# EAGLE library part STM32F427VGT6 (library quad)
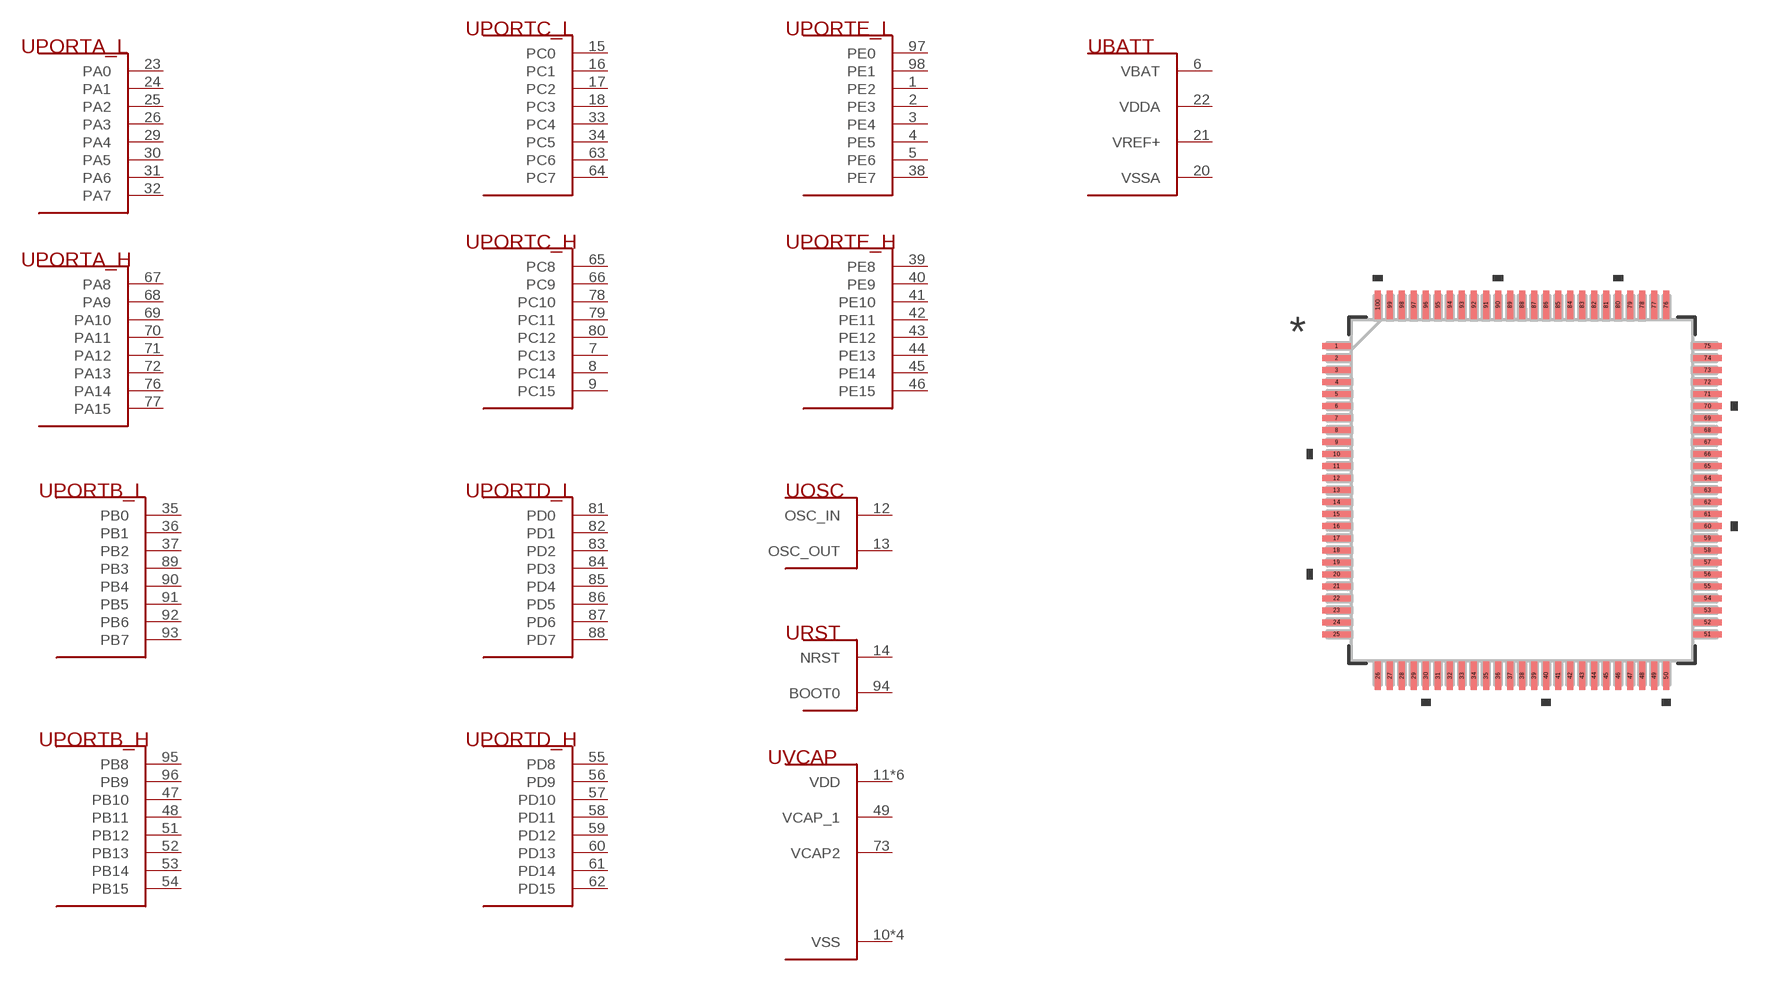
[diagram p0: symbol with the pads of LQFP-100; footprint LQFP-100]

Designator prefix -; gates PORTA_H=STM32F427_PORTA_H PORTA_L=STM32F427_PORTA_L PORTB_L=STM32F427_PORTB_L PORTB_H=STM32F427_PORTB_H PORTC_L=STM32F427_PORTC_L PORTC_H=STM32F427_PORTC_H PORTD_L=STM32F427_PORTD_L PORTD_H=STM32F427_PORTD_H PORTE_L=STM32F427_PORTE_L PORTE_H=STM32F427_PORTE_H OSC=STM32F427_OSC RST=STM32F427_RESET VCAP=STM32F427_CAPS BATT=STM32F427_BATT

## STM32F427VGT6  [LQFP-100]
1  PORTE_L:PE2  pwr
2  PORTE_L:PE3  pwr
3  PORTE_L:PE4  pwr
4  PORTE_L:PE5  pwr
5  PORTE_L:PE6  pwr
6  BATT:VBAT  pwr
7  PORTC_H:PC13  pwr
8  PORTC_H:PC14  pwr
9  PORTC_H:PC15  pwr
10  VCAP:VSS  pwr
11  VCAP:VDD  pwr
12  OSC:OSC_IN  pwr
13  OSC:OSC_OUT  pwr
14  RST:NRST  pwr
15  PORTC_L:PC0  pwr
16  PORTC_L:PC1  pwr
17  PORTC_L:PC2  pwr
18  PORTC_L:PC3  pwr
19  VCAP:VDD  pwr
20  BATT:VSSA  pwr
21  BATT:VREF+  pwr
22  BATT:VDDA  pwr
23  PORTA_L:PA0  pwr
24  PORTA_L:PA1  pwr
25  PORTA_L:PA2  pwr
26  PORTA_L:PA3  pwr
27  VCAP:VSS  pwr
28  VCAP:VDD  pwr
29  PORTA_L:PA4  pwr
30  PORTA_L:PA5  pwr
31  PORTA_L:PA6  pwr
32  PORTA_L:PA7  pwr
33  PORTC_L:PC4  pwr
34  PORTC_L:PC5  pwr
35  PORTB_L:PB0  pwr
36  PORTB_L:PB1  pwr
37  PORTB_L:PB2  pwr
38  PORTE_L:PE7  pwr
39  PORTE_H:PE8  pwr
40  PORTE_H:PE9  pwr
41  PORTE_H:PE10  pwr
42  PORTE_H:PE11  pwr
43  PORTE_H:PE12  pwr
44  PORTE_H:PE13  pwr
45  PORTE_H:PE14  pwr
46  PORTE_H:PE15  pwr
47  PORTB_H:PB10  pwr
48  PORTB_H:PB11  pwr
49  VCAP:VCAP_1  pwr
50  VCAP:VDD  pwr
51  PORTB_H:PB12  pwr
52  PORTB_H:PB13  pwr
53  PORTB_H:PB14  pwr
54  PORTB_H:PB15  pwr
55  PORTD_H:PD8  pwr
56  PORTD_H:PD9  pwr
57  PORTD_H:PD10  pwr
58  PORTD_H:PD11  pwr
59  PORTD_H:PD12  pwr
60  PORTD_H:PD13  pwr
61  PORTD_H:PD14  pwr
62  PORTD_H:PD15  pwr
63  PORTC_L:PC6  pwr
64  PORTC_L:PC7  pwr
65  PORTC_H:PC8  pwr
66  PORTC_H:PC9  pwr
67  PORTA_H:PA8  pwr
68  PORTA_H:PA9  pwr
69  PORTA_H:PA10  pwr
70  PORTA_H:PA11  pwr
71  PORTA_H:PA12  pwr
72  PORTA_H:PA13  pwr
73  VCAP:VCAP2  pwr
74  VCAP:VSS  pwr
75  VCAP:VDD  pwr
76  PORTA_H:PA14  pwr
77  PORTA_H:PA15  pwr
78  PORTC_H:PC10  pwr
79  PORTC_H:PC11  pwr
80  PORTC_H:PC12  pwr
81  PORTD_L:PD0  pwr
82  PORTD_L:PD1  pwr
83  PORTD_L:PD2  pwr
84  PORTD_L:PD3  pwr
85  PORTD_L:PD4  pwr
86  PORTD_L:PD5  pwr
87  PORTD_L:PD6  pwr
88  PORTD_L:PD7  pwr
89  PORTB_L:PB3  pwr
90  PORTB_L:PB4  pwr
91  PORTB_L:PB5  pwr
92  PORTB_L:PB6  pwr
93  PORTB_L:PB7  pwr
94  RST:BOOT0  pwr
95  PORTB_H:PB8  pwr
96  PORTB_H:PB9  pwr
97  PORTE_L:PE0  pwr
98  PORTE_L:PE1  pwr
99  VCAP:VSS  pwr
100  VCAP:VDD  pwr

## Footprint LQFP-100 (pad centres in mm)
smd 1.2 x 0.25: 1 -7.722,6; 2 -7.722,5.5; 3 -7.722,5; 4 -7.722,4.5; 5 -7.722,4; 6 -7.722,3.5; 7 -7.722,3; 8 -7.722,2.5; 9 -7.722,2; 10 -7.722,1.5; 11 -7.722,1; 12 -7.722,0.5; 13 -7.722,0; 14 -7.722,-0.5; 15 -7.722,-1; 16 -7.722,-1.5; 17 -7.722,-2; 18 -7.722,-2.5; 19 -7.722,-3; 20 -7.722,-3.5; 21 -7.722,-4; 22 -7.722,-4.5; 23 -7.722,-5; 24 -7.722,-5.5; 25 -7.722,-6; 51 7.722,-6; 52 7.722,-5.5; 53 7.722,-5; 54 7.722,-4.5; 55 7.722,-4; 56 7.722,-3.5; 57 7.722,-3; 58 7.722,-2.5; 59 7.722,-2; 60 7.722,-1.5; 61 7.722,-1; 62 7.722,-0.5; 63 7.722,0; 64 7.722,0.5; 65 7.722,1; 66 7.722,1.5; 67 7.722,2; 68 7.722,2.5; 69 7.722,3; 70 7.722,3.5; 71 7.722,4; 72 7.722,4.5; 73 7.722,5; 74 7.722,5.5; 75 7.722,6
smd 0.25 x 1.2: 26 -6,-7.722; 27 -5.5,-7.722; 28 -5,-7.722; 29 -4.5,-7.722; 30 -4,-7.722; 31 -3.5,-7.722; 32 -3,-7.722; 33 -2.5,-7.722; 34 -2,-7.722; 35 -1.5,-7.722; 36 -1,-7.722; 37 -0.5,-7.722; 38 0,-7.722; 39 0.5,-7.722; 40 1,-7.722; 41 1.5,-7.722; 42 2,-7.722; 43 2.5,-7.722; 44 3,-7.722; 45 3.5,-7.722; 46 4,-7.722; 47 4.5,-7.722; 48 5,-7.722; 49 5.5,-7.722; 50 6,-7.722; 76 6,7.722; 77 5.5,7.722; 78 5,7.722; 79 4.5,7.722; 80 4,7.722; 81 3.5,7.722; 82 3,7.722; 83 2.5,7.722; 84 2,7.722; 85 1.5,7.722; 86 1,7.722; 87 0.5,7.722; 88 0,7.722; 89 -0.5,7.722; 90 -1,7.722; 91 -1.5,7.722; 92 -2,7.722; 93 -2.5,7.722; 94 -3,7.722; 95 -3.5,7.722; 96 -4,7.722; 97 -4.5,7.722; 98 -5,7.722; 99 -5.5,7.722; 100 -6,7.722